# Altium schematic symbol library Sch_Opto.SchLib: 1 symbol
Pins are listed as number, name and electrical type; pins without a type are passive.

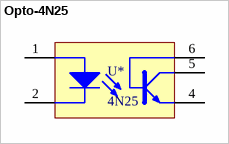
[diagram p0: symbol Opto-4N25]

## Opto-4N25
designator U*, comment 4N25
Optoacoplador
footprint DIP6
pins: 1, 2, 4, 5, 6